# EAGLE library part PIC32MX120F032B-I/ML (library john_mamish_mcu_library)
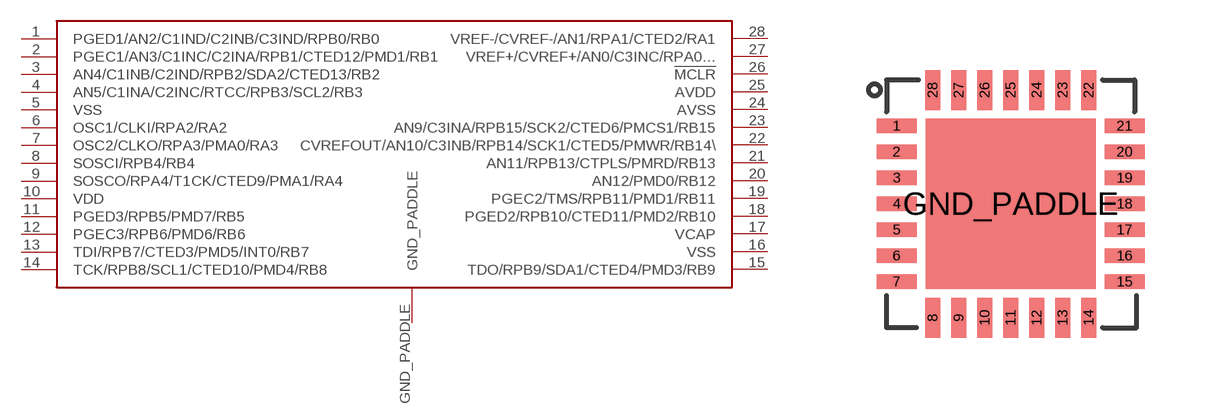
[diagram p3: symbol with the pads of QFN28-MICROCHIP; footprint QFN28-MICROCHIP]

Designator prefix -

## PIC32MX120F032B-I/ML  [QFN28-MICROCHIP]
1  PGED1/AN2/C1IND/C2INB/C3IND/RPB0/RB0
2  PGEC1/AN3/C1INC/C2INA/RPB1/CTED12/PMD1/RB1
3  AN4/C1INB/C2IND/RPB2/SDA2/CTED13/RB2
4  AN5/C1INA/C2INC/RTCC/RPB3/SCL2/RB3
5  VSS
6  OSC1/CLKI/RPA2/RA2
7  OSC2/CLKO/RPA3/PMA0/RA3
8  SOSCI/RPB4/RB4
9  SOSCO/RPA4/T1CK/CTED9/PMA1/RA4
10  VDD
11  PGED3/RPB5/PMD7/RB5
12  PGEC3/RPB6/PMD6/RB6
13  TDI/RPB7/CTED3/PMD5/INT0/RB7
14  TCK/RPB8/SCL1/CTED10/PMD4/RB8
15  TDO/RPB9/SDA1/CTED4/PMD3/RB9
16  VSS
17  VCAP
18  PGED2/RPB10/CTED11/PMD2/RB10
19  PGEC2/TMS/RPB11/PMD1/RB11
20  AN12/PMD0/RB12
21  AN11/RPB13/CTPLS/PMRD/RB13
22  CVREFOUT/AN10/C3INB/RPB14/SCK1/CTED5/PMWR/RB14\
23  AN9/C3INA/RPB15/SCK2/CTED6/PMCS1/RB15
24  AVSS
25  AVDD
26  !MCLR!
27  VREF+/CVREF+/AN0/C3INC/RPA0...
28  VREF-/CVREF-/AN1/RPA1/CTED2/RA1
GND_PADDLE  GND_PADDLE

## Footprint QFN28-MICROCHIP (pad centres in mm)
smd 1 x 0.37: 1 -0.9,-0.95; 2 -0.9,-1.6; 3 -0.9,-2.25; 4 -0.9,-2.9; 5 -0.9,-3.55; 6 -0.9,-4.2; 7 -0.9,-4.85; 15 4.8,-4.85; 16 4.8,-4.2; 17 4.8,-3.55; 18 4.8,-2.9; 19 4.8,-2.25; 20 4.8,-1.6; 21 4.8,-0.95
smd 0.37 x 1: 8 0,-5.75; 9 0.65,-5.75; 10 1.3,-5.75; 11 1.95,-5.75; 12 2.6,-5.75; 13 3.25,-5.75; 14 3.9,-5.75; 22 3.9,-0.05; 23 3.25,-0.05; 24 2.6,-0.05; 25 1.95,-0.05; 26 1.3,-0.05; 27 0.65,-0.05; 28 0,-0.05
smd 4.25 x 4.25: GND_PADDLE 1.95,-2.9